# Altium schematic symbol library SDA07H1SBD.SchLib: 1 symbol
Pins are listed as number, name and electrical type; pins without a type are passive.

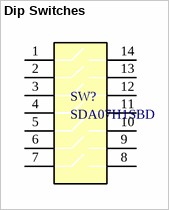
[diagram p0: symbol Dip Switches]

## Dip Switches
designator SW?, comment SDA07H1SBD
Dip Switch SPST 7 Position Surface Mount Slide (Standard) Actuator 25mA 24VDC
footprint 7 pos Dip-Switch
pins: 1, 2, 3, 4, 5, 6, 7, 8, 9, 10, 11, 12, 13, 14